# EAGLE library part MS5611-01BA03 (library MS5611-01BA03)
Barometric Pressure Sensor, with stainless steel cap Check availability <https://pricing.snapeda.com/parts/MS5611-01BA03/TE%20Connectivity/view-part?ref=eda>
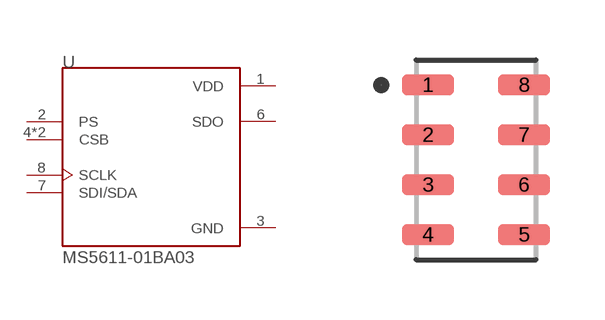
[diagram p0: symbol with the pads of SON125P500X300X100-8N; footprint SON125P500X300X100-8N]

Designator prefix U

## MS5611-01BA03 (Availability: In Stock; Comment: CAT-BLPS0036; Description: Pressure Sensor 0.15PSI ~ 17.4PSI (1kPa ~ 120kPa) Absolute - 24 b 8-SMD; MF: TE Connectivity; MP: MS5611-01BA03; Package: SMD-8 Measurement Specialties; Price: None; Purchase-URL: https://pricing.snapeda.com/search/part/MS5611-01BA03/?ref=eda)  [SON125P500X300X100-8N]
1  VDD  pwr
2  PS  in
3  GND  pwr
4  CSB  in
5  CSB  in
6  SDO  out
7  SDI/SDA
8  SCLK  in

## Footprint SON125P500X300X100-8N (pad centres in mm)
smd 1.31 x 0.53: 1 -1.2,1.875; 2 -1.2,0.625; 3 -1.2,-0.625; 4 -1.2,-1.875; 5 1.2,-1.875; 6 1.2,-0.625; 7 1.2,0.625; 8 1.2,1.875